# EAGLE library part DS1629 (library dallas)
I2C Serial RTC with 32 bytes SRAM and thermometer from -55°C to +125°C
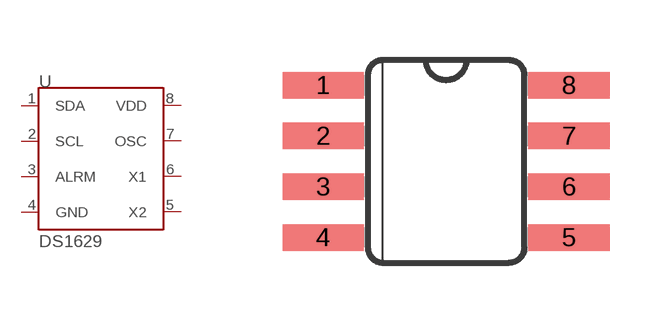
[diagram p2: symbol with the pads of SOIC-8; footprint SOIC-8]

Designator prefix -

## DS1629  [SOIC-8]
1  SDA
2  SCL  in
3  ALRM  out
4  GND  pwr
5  X2  out
6  X1  in
7  OSC  out
8  VDD  pwr

## Footprint SOIC-8 (pad centres in mm)
smd 2.032 x 0.66: 1 -3.073,1.27; 2 -3.073,0; 3 -3.073,-1.27; 4 -3.073,-2.54; 5 3.073,-2.54; 6 3.073,-1.27; 7 3.073,0; 8 3.073,1.27